# EAGLE library part TLW-135-06-T-S (library SAMTEC-Txx_By_element14_Batch_1)
LOW PROFILE HEADER
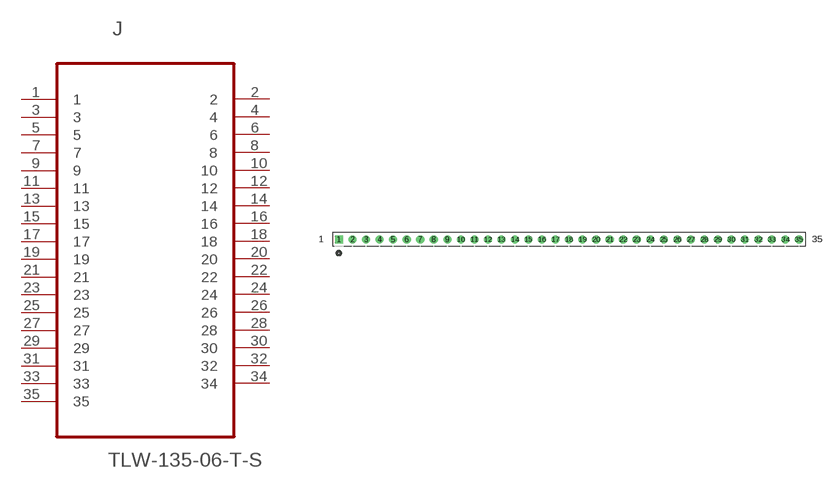
[diagram p367: symbol with the pads of SAMTEC_TLW-135-06-T-S; footprint SAMTEC_TLW-135-06-T-S]

Designator prefix J

## TLW-135-06-T-S (MPN: TLW-135-06-T-S; OC_FARNELL: -; OC_NEWARK: 12P0612; PACKAGE: LOW PROFILE HEADER, SINGLE ROW, 35 way; SUPPLIER: SAMTEC)  [SAMTEC_TLW-135-06-T-S]
1  1  pas
2  2  pas
3  3  pas
4  4  pas
5  5  pas
6  6  pas
7  7  pas
8  8  pas
9  9  pas
10  10  pas
11  11  pas
12  12  pas
13  13  pas
14  14  pas
15  15  pas
16  16  pas
17  17  pas
18  18  pas
19  19  pas
20  20  pas
21  21  pas
22  22  pas
23  23  pas
24  24  pas
25  25  pas
26  26  pas
27  27  pas
28  28  pas
29  29  pas
30  30  pas
31  31  pas
32  32  pas
33  33  pas
34  34  pas
35  35  pas

## Footprint SAMTEC_TLW-135-06-T-S (pad centres in mm)
drill 1.016 square: 1 -86.36,0
drill 1.016: 2 -83.82,0; 3 -81.28,0; 4 -78.74,0; 5 -76.2,0; 6 -73.66,0; 7 -71.12,0; 8 -68.58,0; 9 -66.04,0; 10 -63.5,0; 11 -60.96,0; 12 -58.42,0; 13 -55.88,0; 14 -53.34,0; 15 -50.8,0; 16 -48.26,0; 17 -45.72,0; 18 -43.18,0; 19 -40.64,0; 20 -38.1,0; 21 -35.56,0; 22 -33.02,0; 23 -30.48,0; 24 -27.94,0; 25 -25.4,0; 26 -22.86,0; 27 -20.32,0; 28 -17.78,0; 29 -15.24,0; 30 -12.7,0; 31 -10.16,0; 32 -7.62,0; 33 -5.08,0; 34 -2.54,0; 35 0,0